# EAGLE library part MICRO-USB-SMD-B-(10118193-0001LF) (library Seeed-OPL-Connector)
320010003
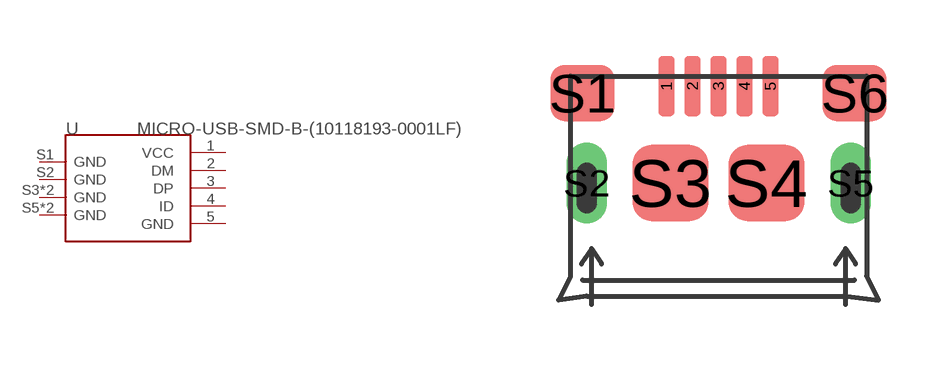
[diagram p77: symbol with the pads of MICRO-USB5+6P-SMD-0.65-B; footprint MICRO-USB5+6P-SMD-0.65-B]

Designator prefix -

## MICRO-USB-SMD-B-(10118193-0001LF) (MPN: 10118193-0001LF)  [MICRO-USB5+6P-SMD-0.65-B]
1  VCC
2  DM
3  DP
4  ID
5  GND
S1  GND
S2  GND
S3  GND
S4  GND
S5  GND
S6  GND

## Footprint MICRO-USB5+6P-SMD-0.65-B (pad centres in mm)
smd 0.4 x 1.5: 1 -1.3,-0.25; 2 -0.65,-0.25; 3 0,-0.25; 4 0.65,-0.25; 5 1.3,-0.25
smd 1.6 x 1.4: S1 -3.4,-0.427; S6 3.4,-0.427
drill 0.508 pad 1.016 long: S2 -3.3,-2.675; S5 3.3,-2.675
smd 1.9 x 1.9: S3 -1.2,-2.675; S4 1.2,-2.675